# EAGLE library part SDCARD (library Board4You)
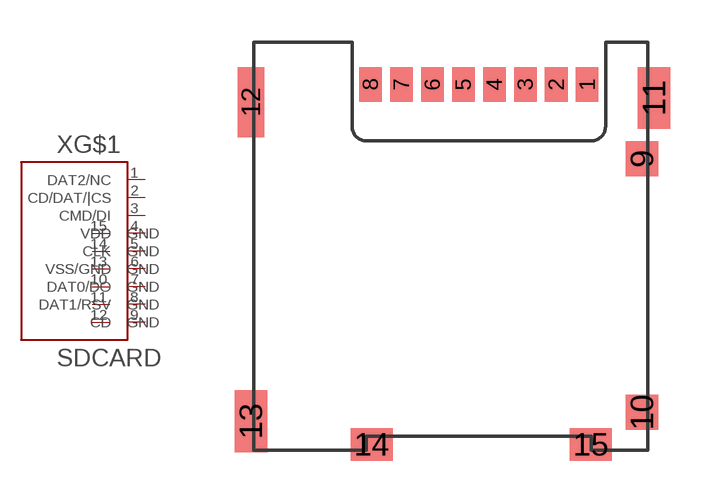
[diagram p8: symbol with the pads of MICROSDCARD3; footprint MICROSDCARD3]

Designator prefix X; gates G$1=SDCARD G$2=GNDPAD G$3=GNDPAD G$4=GNDPAD G$5=GNDPAD G$6=GNDPAD G$7=GNDPAD

## SDCARD  [MICROSDCARD3]
1  G$1:DAT2/NC
2  G$1:CD/DAT/|CS
3  G$1:CMD/DI
4  G$1:VDD
5  G$1:CLK
6  G$1:VSS/GND  pwr
7  G$1:DAT0/DO
8  G$1:DAT1/RSV
9  G$1:CD
10  G$2:GND  pwr
11  G$3:GND  pwr
12  G$4:GND  pwr
13  G$5:GND  pwr
14  G$6:GND  pwr
15  G$7:GND  pwr

## Footprint MICROSDCARD3 (pad centres in mm)
smd 0.8 x 1.24: 1 3.85,0; 2 2.75,0; 3 1.65,0; 4 0.55,0; 5 -0.55,0; 6 -1.65,0; 7 -2.75,0; 8 -3.85,0
smd 1.16 x 1.25: 9 5.8,-2.64; 10 5.8,-11.64
smd 1.15 x 2.2: 11 6.225,-0.48; 13 -8.095,-11.96
smd 0.95 x 2.5: 12 -8.095,-0.63
smd 1.5 x 1.15: 14 -3.8,-12.785; 15 3.98,-12.785